# Altium schematic symbol library BlueGigaWT12.SchLib: 1 symbol
Pins are listed as number, name and electrical type; pins without a type are passive.

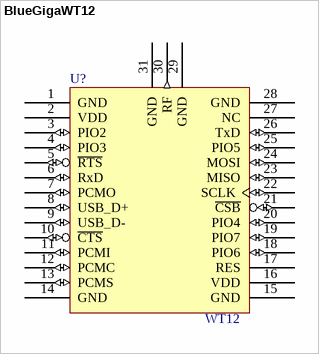
[diagram p0: symbol BlueGigaWT12]

## BlueGigaWT12
designator U?, comment WT12
Bluetooth Module; Text Field 1: RF Module; Text Field 2: Bluetooth, Class 1,; Text Field 3: SMT; Text Field 4: Bluegiga; Text Field 5: WT12A-AI3; Text Field 6: CMW#; Text Field 7: $39
pins: 1 GND, 2 VDD, 3 PIO2 (io), 4 PIO3 (io), 5 ~{RTS} (io), 6 RxD (io), 7 PCMO (io), 8 USB_D+ (io), 9 USB_D- (io), 10 ~{CTS} (io), 11 PCMI (io), 12 PCMC (io), 13 PCMS (io), 14 GND, 15 GND, 16 VDD, 17 RES, 18 PIO6 (io), 19 PIO7 (io), 20 PIO4 (io), 21 ~{CSB} (io), 22 SCLK (io), 23 MISO (io), 24 MOSI (io), 25 PIO5 (io), 26 TxD (io), 27 NC, 28 GND, 29 GND, 30 RF (out), 31 GND
2 alternate drawings of the same symbol